# EAGLE library part ATTINY45 (library IAD-Library)
Attiny 45 or 85 Gullwing_smd for smd dipsocket (https://www.digikey.ch/product-detail/en/mill-max-manufacturing-corp/110-47-308-41-105000/ED11083-ND/7363959) 110-47-308-41-105000
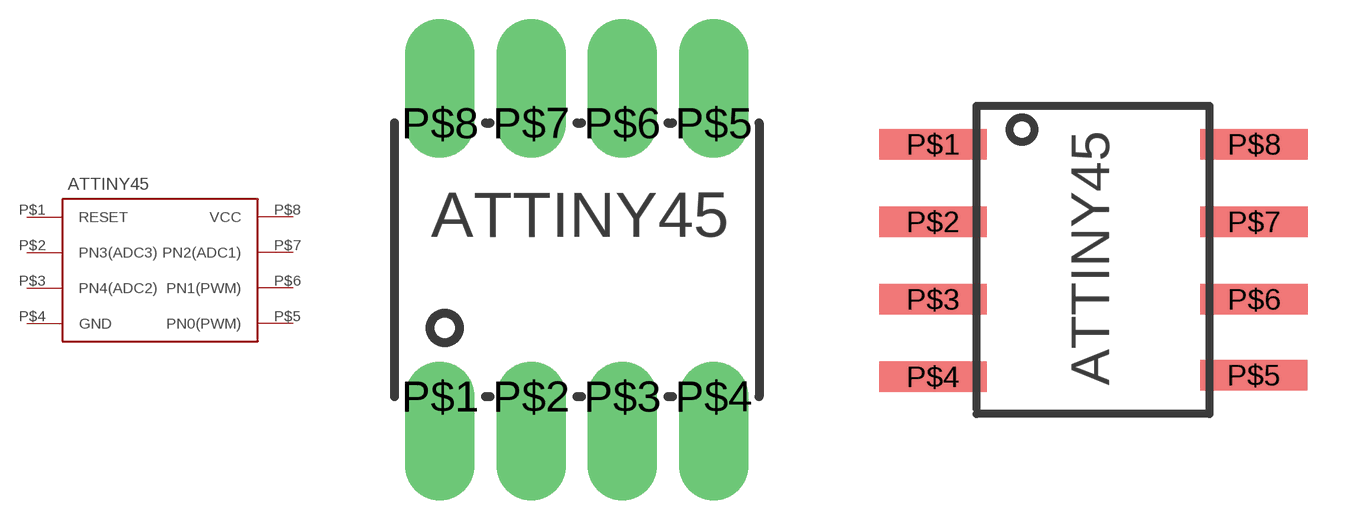
[diagram p8: symbol with the pads of 8PDIP; footprints 8PDIP, GULLWING_SMD]

Designator prefix -

## ATTINY45  [8PDIP]
P$1  RESET
P$2  PN3(ADC3)
P$3  PN4(ADC2)
P$4  GND
P$5  PN0(PWM)
P$6  PN1(PWM)
P$7  PN2(ADC1)
P$8  VCC

## ATTINY45GULLWINGDIP  [GULLWING_SMD]
Pads as for 8PDIP

## Footprint 8PDIP (pad centres in mm)
drill 0.381 pad 1.93 offset: P$1 -3.81,-3.81; P$2 -1.27,-3.81; P$3 1.27,-3.81; P$4 3.81,-3.81; P$5 3.81,3.81; P$6 1.27,3.81; P$7 -1.27,3.81; P$8 -3.81,3.81

## Footprint GULLWING_SMD (pad centres in mm)
smd 3.51 x 1: P$1 -5.243,3.895; P$2 -5.243,1.355; P$3 -5.243,-1.185; P$4 -5.243,-3.725; P$5 5.258,-3.67; P$6 5.273,-1.185; P$7 5.273,1.355; P$8 5.273,3.895